# Altium footprint library NEXPERIA_PKG_SOD523.PcbLib: 1 footprints
Each footprint in its own frame and in the unit in brackets; x right, y up, seen from the top. Pads: shape width x height; smd on the part's side, far side on the other; paste and mask are expansions set on the pad; w line width, h text height; cw(c..) or ccw(c..) is an arc to the next point about the centre after c.
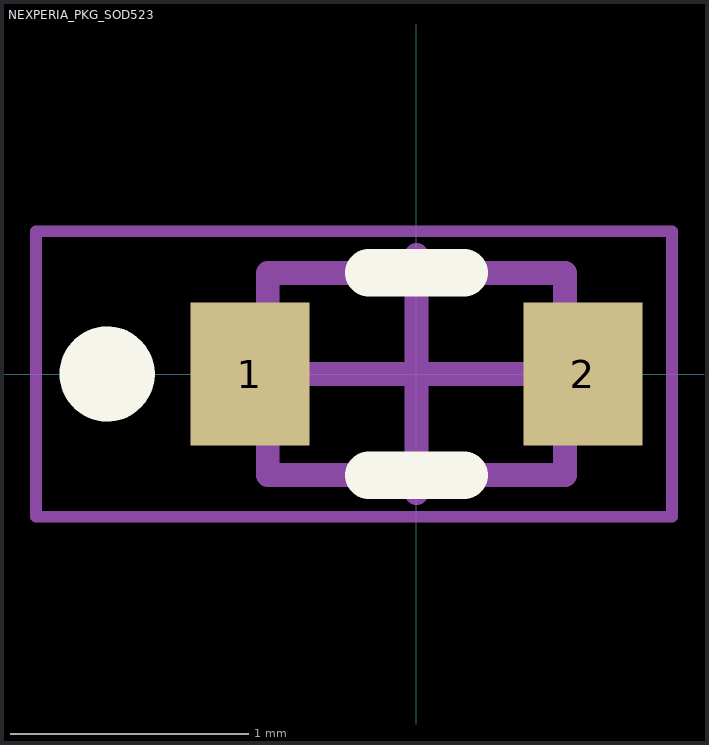
[diagram p0: the footprint, top view; thin cyan lines are the x and y axes]

## NEXPERIA_PKG_SOD523 [mm]
height 1.2
pads (2):
  rect 0.5x0.6 smd: 1(-0.7,0) 2(0.7,0)
Top Overlay:
  circle w0.2: c-1.3,0 r0.1
  lines w0.2: -0.2,-0.425 0.2,-0.425 ; -0.2,0.425 0.2,0.425
Mechanical 13:
  lines w0.1: -0.625,-0.425 0.625,-0.425 0.625,0.425 -0.625,0.425 -0.625,-0.425
Mechanical 15:
  lines w0.05: -1.6,-0.6 1.075,-0.6 1.075,0.6 -1.6,0.6 -1.6,-0.6
  lines w0.1: -0.5,0 0.5,0 ; 0,-0.5 0,0.5
3D body: height 0.65, standoff 0, extent -0.625,-0.425 0.625,0.425